# Altium schematic symbol library S70FL01GSAGMFI011.SchLib: 1 symbol
Pins are listed as number, name and electrical type; pins without a type are passive.

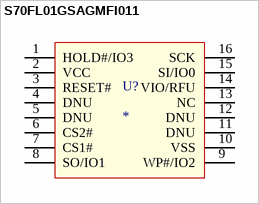
[diagram p0: symbol S70FL01GSAGMFI011]

## S70FL01GSAGMFI011
designator U?
pins: 1 HOLD#/IO3, 2 VCC, 3 RESET#, 4 DNU, 5 DNU, 6 CS2#, 7 CS1#, 8 SO/IO1, 9 WP#/IO2, 10 VSS, 11 DNU, 12 DNU, 13 NC, 14 VIO/RFU, 15 SI/IO0, 16 SCK
1 alternate drawing of the same symbol